# EAGLE library part 3FT1E/F (library mec switches)
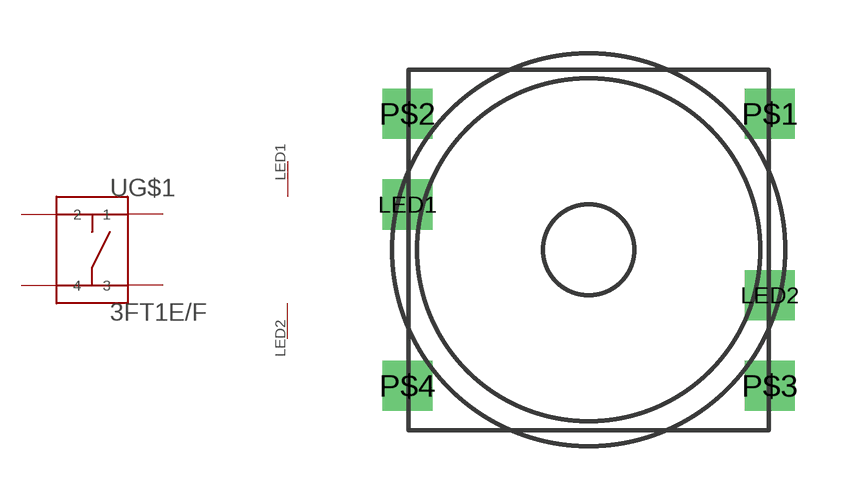
[diagram p0: symbol with the pads of 3FT-LED; footprint 3FT-LED]

Designator prefix -; gates G$1=BASICSWITCH G$2=LEDS

## 3FT1E/F  [3FT-LED]
LED1  G$2:P$5
LED2  G$2:P$6
P$1  G$1:1
P$2  G$1:2
P$3  G$1:3
P$4  G$1:4

## Footprint 3FT-LED (pad centres in mm)
drill 0.9 square: LED1 -5.08,1.27; LED2 5.08,-1.27; P$1 5.08,3.81; P$2 -5.08,3.81; P$3 5.08,-3.81; P$4 -5.08,-3.81